# EAGLE library part CONNECTOR-8 (library HyTechDevices)
Mini-Fit Junior connector 8 pole Source: http://www.molex.com
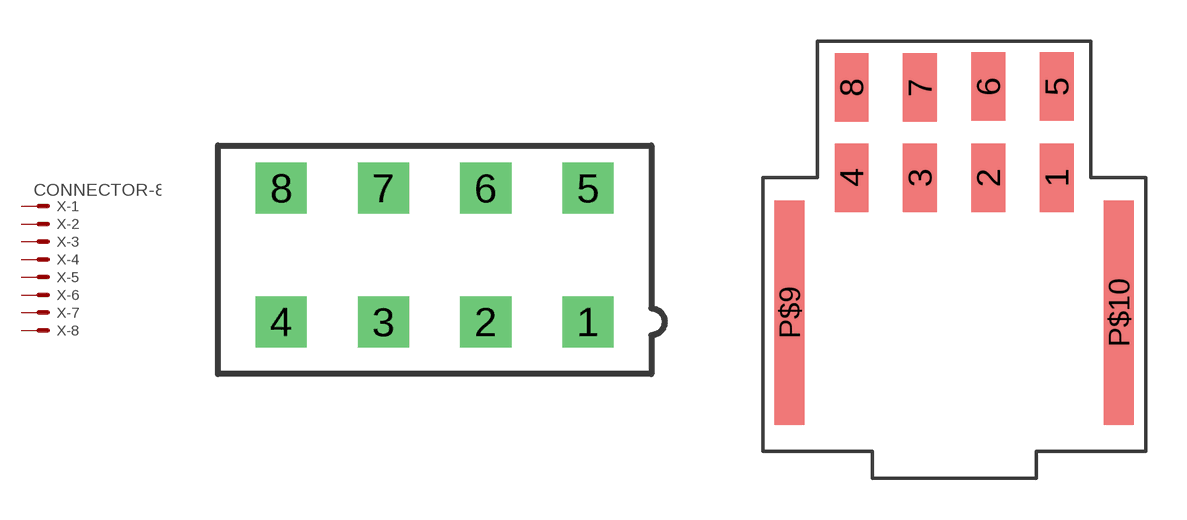
[diagram p3: symbol with the pads of 39288080; footprints 39288080, 1054051208]

Designator prefix X; gates -1=MV -2=M -3=M -4=M -5=M -6=M -7=M -8=M

## CONNECTOR-8 (OC_FARNELL: unknown; OC_NEWARK: unknown)  [39288080]
1  -1:S  pas
2  -2:S  pas
3  -3:S  pas
4  -4:S  pas
5  -5:S  pas
6  -6:S  pas
7  -7:S  pas
8  -8:S  pas

## CONNECTOR-8NANO-FIT_RIGHT_ANGLE-8-SURFACE  [1054051208]
Pads as for 39288080

## CONNECTOR-8NANO-FIT_VERTICAL-8  [1053101208]
P$1  -1:S  pas
P$2  -2:S  pas
P$3  -3:S  pas
P$4  -4:S  pas
P$5  -5:S  pas
P$6  -6:S  pas
P$7  -7:S  pas
P$8  -8:S  pas

## Footprint 39288080 (pad centres in mm)
Mini-Fit Junior connector 8 pole Source: http://www.molex.com
drill 1.4 square: 1 6.3,-2.75; 2 2.1,-2.75; 3 -2.1,-2.75; 4 -6.3,-2.75; 5 6.3,2.75; 6 2.1,2.75; 7 -2.1,2.75; 8 -6.3,2.75

## Footprint 1054051208 (pad centres in mm)
smd 1.24 x 2.5: 1 3.75,0; 2 1.25,0; 3 -1.25,0; 4 -3.75,0; 5 3.75,3.34; 6 1.25,3.34; 7 -1.25,3.3; 8 -3.75,3.3
smd 1.1 x 8.2: P$9 -6.02,-4.93; P$10 6.02,-4.93

## Footprint 1053101208 (pad centres in mm)
drill 1.2: P$1 -3.75,0; P$2 -1.25,0; P$3 1.25,0; P$4 3.75,0; P$5 -3.75,2.5; P$6 -1.25,2.5; P$7 1.25,2.5; P$8 3.75,2.5
hole 1.3 at 0,-1.34